# Altium footprint library CameraCageBB.PcbLib: 29 footprints (part 2 of 2)
Each footprint in its own frame and in the unit in brackets; x right, y up, seen from the top. Pads: shape width x height; smd on the part's side, far side on the other; paste and mask are expansions set on the pad; w line width, h text height; cw(c..) or ccw(c..) is an arc to the next point about the centre after c.
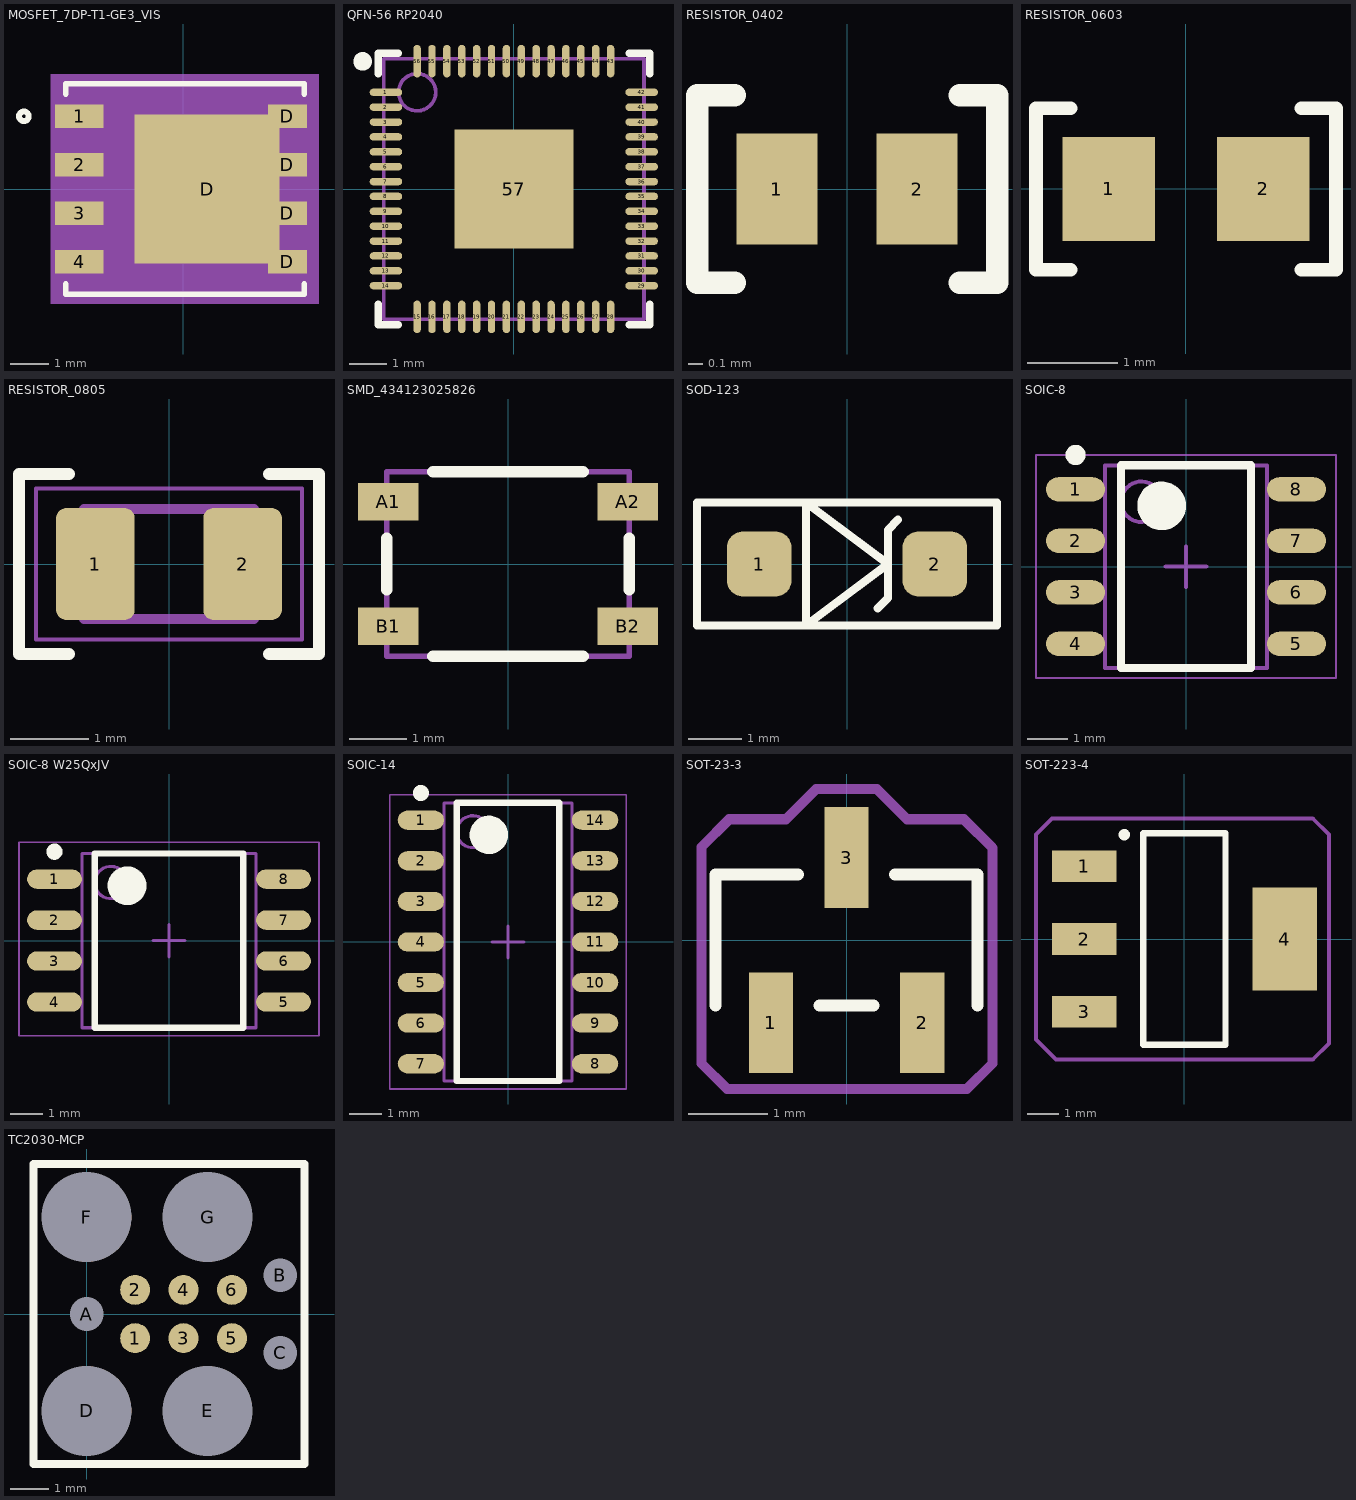
[diagram p1: the footprints below, top view; thin cyan lines are the x and y axes]

## MOSFET_7DP-T1-GE3_VIS [mil]
pads (9):
  rect 50x24 smd: 1(-107.5,75) 2(-107.5,25) 3(-107.5,-25) 4(-107.5,-75)
  rect 150x154 smd: D(24.5,0)
  rect 40x24 smd: D(107.5,-75) D(107.5,-25) D(107.5,25) D(107.5,75)
Top Layer:
  region: 1.75,-77
  region: 1.75,77
Top Overlay:
  circle w6: c-164.5,75 r5
  lines w6: -121.25,-98.1 -121.25,-108.5 124.75,-108.5 124.75,-98.1 ; -121.25,98.1 -121.25,108.5 124.75,108.5 124.75,98.1
Top Solder:
  region: 1.75,-77
  region: 1.75,77
Top Assembly:
  region: 140,-118.5 -136.5,-118.5 -136.5,118.5 140,118.5
Mechanical 13:
  circle w0: c-93.5,75 r3
  lines w0: -10.25,103.5 ccw(c1.75,103.5) 13.75,103.5
  lines w1: -116.25,-103.5 -116.25,103.5 119.75,103.5 119.75,-103.5 -116.25,-103.5
Mechanical 15:
  region: -126.25,-95 -131.5,-95 -131.5,95 -126.25,95 -126.25,113.5 129.75,113.5 129.75,95 135,95 135,-95 129.75,-95 129.75,-113.5 -126.25,-113.5
  lines w6: -131.5,-95 -126.25,-95 -126.25,-113.5 129.75,-113.5 129.75,-95 135,-95 135,95 129.75,95 129.75,113.5 -126.25,113.5 -126.25,95 -131.5,95 -131.5,-95
3D body: height 10, standoff 0, extent 1.75,0 11.75,10
3D body "MOSFET-PowerPAK SO-8 (S).step": height 41.44, standoff 0.5, extent -121.06,-101.38 121.06,101.38

## QFN-56 RP2040 [mm] "QFN, 56-Leads, Body 7.00x7.00mm, Pitch 0.40mm, Thermal Pad 3.10x3.10mm, IPC Medium Density"
height 0.9
pads (57):
  oval 0.875x0.2 smd: 1(-3.437,2.6) 2(-3.437,2.2) 3(-3.437,1.8) 4(-3.437,1.4) 5(-3.437,1) 6(-3.437,0.6) 7(-3.437,0.2) 8(-3.437,-0.2) 9(-3.437,-0.6) 10(-3.437,-1) 11(-3.437,-1.4) 12(-3.437,-1.8) 13(-3.437,-2.2) 14(-3.437,-2.6) 29(3.437,-2.6) 30(3.437,-2.2) 31(3.437,-1.8) 32(3.437,-1.4) 33(3.437,-1) 34(3.437,-0.6) 35(3.437,-0.2) 36(3.437,0.2) 37(3.437,0.6) 38(3.437,1) 39(3.437,1.4) 40(3.437,1.8) 41(3.437,2.2) 42(3.437,2.6)
  oval 0.2x0.875 smd: 15(-2.6,-3.437) 16(-2.2,-3.437) 17(-1.8,-3.437) 18(-1.4,-3.437) 19(-1,-3.437) 20(-0.6,-3.437) 21(-0.2,-3.437) 22(0.2,-3.437) 23(0.6,-3.437) 24(1,-3.437) 25(1.4,-3.437) 26(1.8,-3.437) 27(2.2,-3.437) 28(2.6,-3.437) 43(2.6,3.437) 44(2.2,3.437) 45(1.8,3.437) 46(1.4,3.437) 47(1,3.437) 48(0.6,3.437) 49(0.2,3.437) 50(-0.2,3.437) 51(-0.6,3.437) 52(-1,3.437) 53(-1.4,3.437) 54(-1.8,3.437) 55(-2.2,3.437) 56(-2.6,3.437)
  rect 3.2x3.2 smd: 57(0,0)
Top Overlay:
  circle w0.25: c-4.064,3.429 r0.125
  lines w0.2: -3.65,-3.1 -3.65,-3.65 -3.1,-3.65 ; -3.65,3.1 -3.65,3.65 -3.1,3.65 ; 3.1,-3.65 3.65,-3.65 3.65,-3.1 ; 3.1,3.65 3.65,3.65 3.65,3.1
Mechanical 1:
  circle w0.1: c-2.6,2.6 r0.5
  lines w0.1: -3.5,-3.5 3.5,-3.5 3.5,3.5 -3.5,3.5 -3.5,-3.5
3D body "User Library-RP2040_QFN56_04.STEP": height 0.85, standoff -0.05, extent -3.52,-3.52 3.52,3.52

## RESISTOR_0402 [mm] "Resistor 0402"
pads (2):
  rect 0.55x0.75 smd: 1(-0.475,0) 2(0.475,0)
Top Overlay:
  lines w0.152: -0.762,-0.635 -1.016,-0.635 -1.016,0.635 -0.762,0.635 ; 0.762,-0.635 1.016,-0.635 1.016,0.635 0.762,0.635
3D body "Resistor_0402-d0402h025.step": height 0.25, standoff 0, extent -0.5,-0.25 0.5,0.25

## RESISTOR_0603 [mil] "Resistor 0603"
pads (2):
  rect 40x45 smd: 1(-33.5,0) 2(33.5,0)
Top Overlay:
  lines w6: -50,-35 -65,-35 -65,35 -50,35 ; 50,-35 65,-35 65,35 50,35
3D body "User Library-res0603-1.step": height 15.75, standoff 0, extent -31.49,-15.74 31.5,15.75

## RESISTOR_0805 [mm]
pads (2):
  rrect25% 1x1.42 smd: 1(-0.935,0) 2(0.935,0)
Top Overlay:
  lines w0.152: -1.27,-1.143 -1.905,-1.143 -1.905,1.143 -1.27,1.143 ; 1.27,-1.143 1.905,-1.143 1.905,1.143 1.27,1.143
Mechanical 13:
  lines w0.127: -1.08,-0.7 -1.08,0.7 1.08,0.7 1.08,-0.7 -1.08,-0.7
Mechanical 15:
  lines w0.05: -1.69,-0.96 -1.69,0.96 1.69,0.96 1.69,-0.96 -1.69,-0.96
3D body "RES_ERA6A_0805_PAN.step": height 0.61, standoff 0, extent -1.105,-0.673 1.105,0.673

## SMD_434123025826 [mm]
pads (4):
  rect 1.05x0.65 smd: A1(-2.075,1.075) A2(2.075,1.075) B1(-2.075,-1.075) B2(2.075,-1.075)
Top Overlay:
  lines w0.2: -2.1,-0.45 -2.1,0.45 ; -1.3,-1.6 1.3,-1.6 ; -1.3,1.6 1.3,1.6 ; 2.1,-0.45 2.1,0.45
Top 3D Body:
  lines w0.1: -2.1,-1.6 -2.1,1.6 2.1,1.6 2.1,-1.6 -2.1,-1.6
Top Component Outline:
  lines w0.1: -2.1,-1.6 2.1,-1.6 2.1,1.6 -2.1,1.6 -2.1,-1.6
3D body "4341x30258x6.stp": height 2.5, standoff 0, extent -2.299,-1.6 2.299,1.6

## SOD-123 [mm] "Schottky Diode SOD-123"
pads (2):
  rrect50% 1.2x1.22 smd: 1(-1.635,0) 2(1.635,0)
Top Overlay:
  lines w0.152: 0.572,-0.826 0.762,-0.635 0.762,0.635 0.953,0.826 ; -2.794,-1.143 -2.794,1.143 2.794,1.143 2.794,-1.143 -2.794,-1.143 ; -0.762,-1.143 -0.762,1.143 0.762,0 -0.762,-1.143
3D body "User Library-SOD123-1.step": height 1.18, standoff 0, extent -1.95,-0.9 1.95,0.9

## SOIC-8 [mm] "SOIC, 8-Leads, Body 4.90x3.90mm, Pitch 1.27mm, IPC Medium Density"
height 1.75
pads (8):
  oval 1.45x0.6 smd: 1(-2.725,1.905) 2(-2.725,0.635) 3(-2.725,-0.635) 4(-2.725,-1.905) 5(2.725,-1.905) 6(2.725,-0.635) 7(2.725,0.635) 8(2.725,1.905)
Top Overlay:
  circle w0.25: c-2.725,2.755 r0.125
  circle w0.6: c-0.6,1.5 r0.3
  lines w0.2: -1.6,-2.5 -1.6,2.5 1.6,2.5 1.6,-2.5 -1.6,-2.5
Mechanical 13:
  circle w0.1: c-1.1,1.6 r0.5
  lines w0.1: -2,-2.5 -2,2.5 2,2.5 2,-2.5 -2,-2.5
Mechanical 15:
  lines w0.05: -3.7,-2.75 -3.7,2.75 3.7,2.75 3.7,-2.75 -3.7,-2.75
  lines w0.1: -0.5,0 0.5,0 ; 0,-0.5 0,0.5
3D body "SOIC-8.step": height 1.75, standoff 0, extent -3,-2.5 3,2.5

## SOIC-8 W25QxJV [mm] "SOIC, 8-Leads, Body 5.28x5.28mm, Pitch 1.27mm, IPC Medium Density"
height 2.16
pads (8):
  oval 1.7x0.6 smd: 1(-3.55,1.905) 2(-3.55,0.635) 3(-3.55,-0.635) 4(-3.55,-1.905) 5(3.55,-1.905) 6(3.55,-0.635) 7(3.55,0.635) 8(3.55,1.905)
Top Overlay:
  circle w0.25: c-3.55,2.755 r0.125
  circle w0.6: c-1.3,1.7 r0.3
  lines w0.2: -2.3,-2.7 -2.3,2.7 2.3,2.7 2.3,-2.7 -2.3,-2.7
Top 3D Body:
  lines w0.05: -4.65,-2.95 -4.65,3.048 4.65,3.048 4.65,-2.95 -4.65,-2.95
Mechanical 13:
  circle w0.1: c-1.8,1.8 r0.5
  lines w0.1: -2.7,-2.7 -2.7,2.7 2.7,2.7 2.7,-2.7 -2.7,-2.7
Mechanical 15:
  lines w0.1: -0.5,0 0.5,0 ; 0,-0.5 0,0.5
3D body "W25Q128JVSIQ.STEP": height 1.95, standoff 0, extent -3.95,-2.615 3.95,2.615

## SOIC-14 [mm] "SOIC, 14-Leads, Body 8.65x3.90mm, Pitch 1.27mm, IPC Medium Density"
height 1.75
pads (14):
  oval 1.45x0.6 smd: 1(-2.725,3.81) 2(-2.725,2.54) 3(-2.725,1.27) 4(-2.725,0) 5(-2.725,-1.27) 6(-2.725,-2.54) 7(-2.725,-3.81) 8(2.725,-3.81) 9(2.725,-2.54) 10(2.725,-1.27) 11(2.725,0) 12(2.725,1.27) 13(2.725,2.54) 14(2.725,3.81)
Top Overlay:
  circle w0.25: c-2.725,4.66 r0.125
  circle w0.6: c-0.6,3.35 r0.3
  lines w0.2: -1.6,-4.35 -1.6,4.35 1.6,4.35 1.6,-4.35 -1.6,-4.35
Mechanical 13:
  circle w0.1: c-1.1,3.45 r0.5
  lines w0.1: -2,-4.35 -2,4.35 2,4.35 2,-4.35 -2,-4.35
Mechanical 15:
  lines w0.05: -3.7,-4.6 -3.7,4.6 3.7,4.6 3.7,-4.6 -3.7,-4.6
  lines w0.1: -0.5,0 0.5,0 ; 0,-0.5 0,0.5
3D body "User Library-so14-1.step": height 1.7, standoff 0, extent -3,-4.4 3,4.4

## SOT-23-3 [mil]
pads (3):
  rect 22x50 smd paste+0 mask+4: 1(-37.5,-41) 2(37.5,-41) 3(0,41)
Top Overlay:
  lines w6: -65,-32.5 -65,32.5 -24.1,32.5 ; -13.4,-32.5 13.4,-32.5 ; 24.1,32.5 65,32.5 65,-32.5
Top 3D Body:
  lines w5: -71.94,-61.15 -59.24,-73.85 59.72,-73.85 72.42,-61.15 72.42,45.79 58.21,60 30,60 15,75 -15,75 -30,60 -58.2,60 -71.94,46.26 -71.94,-61.15
Mechanical 13:
  lines w1: -47.5,-52 -47.5,-27.5 -27.5,-27.5 -27.5,-52 -47.5,-52 ; -10,27.5 10,27.5 10,52 -10,52 -10,27.5 ; 27.5,-52 27.5,-27.5 47.5,-27.5 47.5,-52 27.5,-52
3D body "SOT-23_3L_ONS.step": height 44.09, standoff 0, extent -60,-52 60,52.01

## SOT-223-4 [mm]
pads (4):
  rect 2.05x1 smd paste+0 mask+0.102: 1(-3.175,2.3) 2(-3.175,0) 3(-3.175,-2.3)
  rect 2.05x3.25 smd paste+0 mask+0.102: 4(3.175,0)
Top Overlay:
  circle w0.254: c-1.905,3.302 r0.051
  lines w0.2: -1.3,-3.35 -1.3,3.35 1.3,3.35 1.3,-3.35 -1.3,-3.35
Top 3D Body:
  lines w0.127: -4.699,-3.175 -4.064,-3.81 4.064,-3.81 4.572,-3.302 4.572,3.302 4.064,3.81 -4.191,3.81 -4.699,3.302 -4.699,-3.175
3D body "DCY0004A.stp": height 1.68, standoff 0, extent -3.5,-3.25 3.5,3.25

## TC2030-MCP [mil]
pads (13):
  round 31 smd: 1(50,-25) 2(50,25) 3(100,-25) 4(100,25) 5(150,-25) 6(150,25)
  round 34 hole 35 unplated: A(0,0) B(200,40) C(200,-40)
  round 92 hole 93 unplated: D(0,-100) E(125,-100) F(0,100) G(125,100)
Top Overlay:
  lines w7.87: -55,-155 -55,155 225,155 225,-155 -55,-155